# EAGLE library part SOCKET-8PIN (library homemade-hardware)
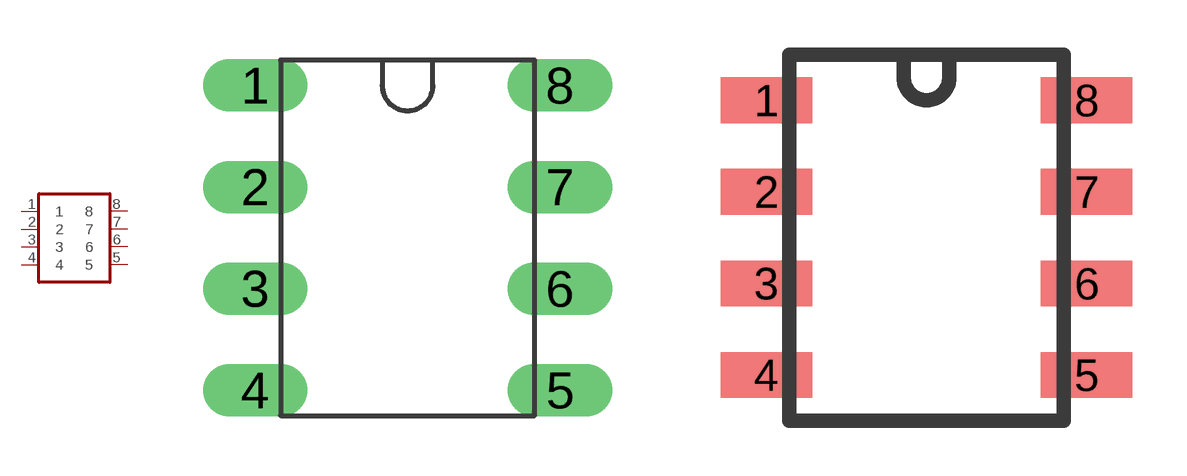
[diagram p0: symbol with the pads of SOCKET-8PIN; footprints SOCKET-8PIN, SOCKET-8PIN-SMD]

Designator prefix -

## SOCKET-8PINDIP  [SOCKET-8PIN]
1  1
2  2
3  3
4  4
5  5
6  6
7  7
8  8

## SOCKET-8PINSMD  [SOCKET-8PIN-SMD]
Pads as for SOCKET-8PIN

## Footprint SOCKET-8PIN (pad centres in mm)
drill 0.8 long: 1 -3.81,3.81; 2 -3.81,1.27; 3 -3.81,-1.27; 4 -3.81,-3.81; 5 3.81,-3.81; 6 3.81,-1.27; 7 3.81,1.27; 8 3.81,3.81

## Footprint SOCKET-8PIN-SMD (pad centres in mm)
smd 2.54 x 1.27: 1 -4.445,3.81; 2 -4.445,1.27; 3 -4.445,-1.27; 4 -4.445,-3.81; 5 4.445,-3.81; 6 4.445,-1.27; 7 4.445,1.27; 8 4.445,3.81